# Altium integrated library TI Logic Boundary Scan.IntLib: 169 symbols (part 3 of 5)
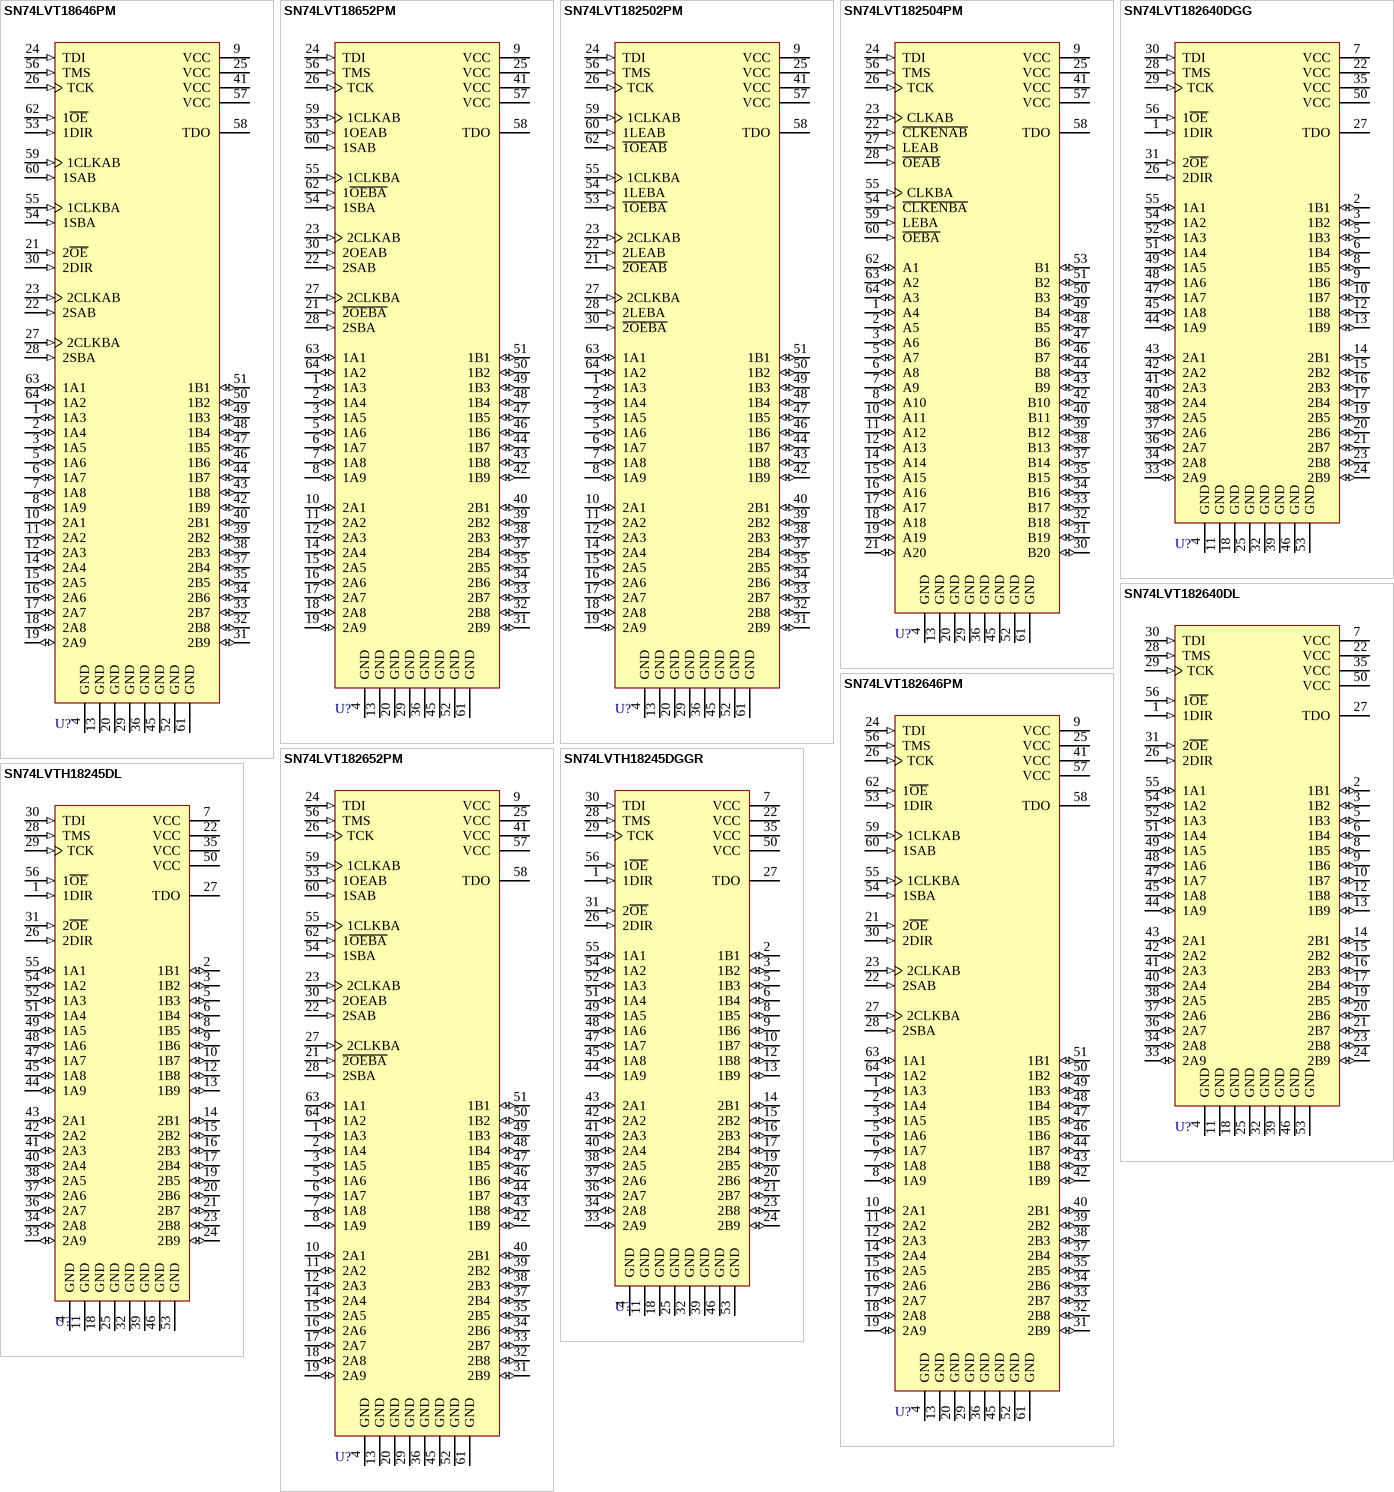
[diagram p14: symbols SN74LVT18646PM to SN74LVTH18245DL]

## SN74LVT182640DGG
designator U?
3.3-V ABT Scan Test Device with 18-Bit Inverting Bus Transceiver; Published: 8-Jun-2000; LatestRevisionDate: 06-Jun-2005; LatestRevisionNote: Stylized 3D Model Added.; DatasheetVersion: Aug-1994; PackageVersion: Jan-1998; PackageReference: DGG056; Publisher: Altium Limited; PackageDescription: Shrink Small Outline; 56 Leads; Body Width 6.1 mm; Pitch 0.5 mm; ComponentLink1Description: Manufacturer Link; ComponentLink1URL: http://www.ti.com/
footprint DGG056 (Shrink Small Outline; 56 Leads; Body Width 6.1 mm; Pitch 0.5 mm)
3D model DGG056 (Shrink Small Outline; 56 Leads; Body Width 6.1 mm; Pitch 0.5 mm)
signal-integrity model SN74LVT182640DGG
pins: 1 1DIR (in), 2 1B1 (io), 3 1B2 (io), 4 GND (power), 5 1B3 (io), 6 1B4 (io), 7 VCC (power), 8 1B5 (io), 9 1B6 (io), 10 1B7 (io), 11 GND (power), 12 1B8 (io), 13 1B9 (io), 14 2B1 (io), 15 2B2 (io), 16 2B3 (io), 17 2B4 (io), 18 GND (power), 19 2B5 (io), 20 2B6 (io), 21 2B7 (io), 22 VCC (power), 23 2B8 (io), 24 2B9 (io), 25 GND (power), 26 2DIR (in), 27 TDO (hiz), 28 TMS (in), 29 TCK (in), 30 TDI (in), 31 2~{OE} (in), 32 GND (power), 33 2A9 (io), 34 2A8 (io), 35 VCC (power), 36 2A7 (io), 37 2A6 (io), 38 2A5 (io), 39 GND (power), 40 2A4 (io), 41 2A3 (io), 42 2A2 (io), 43 2A1 (io), 44 1A9 (io), 45 1A8 (io), 46 GND (power), 47 1A7 (io), 48 1A6 (io), 49 1A5 (io), 50 VCC (power), 51 1A4 (io), 52 1A3 (io), 53 GND (power), 54 1A2 (io), 55 1A1 (io), 56 1~{OE} (in)

## SN74LVT182640DL
designator U?
3.3-V ABT Scan Test Device with 18-Bit Inverting Bus Transceiver; Published: 8-Jun-2000; LatestRevisionDate: 06-Jun-2005; LatestRevisionNote: Stylized 3D Model Added.; DatasheetVersion: Aug-1994; PackageVersion: Dec-2001; PackageReference: DL056; Publisher: Altium Limited; PackageDescription: SSOP; 56 Leads; Body Width 7.5 mm; Pitch 0.635 mm; Code_JEDEC: MO-118-AB; Code_IPC: SSO56; ComponentLink1Description: Manufacturer Link; ComponentLink1URL: http://www.ti.com/
footprint DL056 (SSOP; 56 Leads; Body Width 7.5 mm; Pitch 0.635 mm)
3D model DL056 (SSOP; 56 Leads; Body Width 7.5 mm; Pitch 0.635 mm)
signal-integrity model SN74LVT182640DL
pins: 1 1DIR (in), 2 1B1 (io), 3 1B2 (io), 4 GND (power), 5 1B3 (io), 6 1B4 (io), 7 VCC (power), 8 1B5 (io), 9 1B6 (io), 10 1B7 (io), 11 GND (power), 12 1B8 (io), 13 1B9 (io), 14 2B1 (io), 15 2B2 (io), 16 2B3 (io), 17 2B4 (io), 18 GND (power), 19 2B5 (io), 20 2B6 (io), 21 2B7 (io), 22 VCC (power), 23 2B8 (io), 24 2B9 (io), 25 GND (power), 26 2DIR (in), 27 TDO (hiz), 28 TMS (in), 29 TCK (in), 30 TDI (in), 31 2~{OE} (in), 32 GND (power), 33 2A9 (io), 34 2A8 (io), 35 VCC (power), 36 2A7 (io), 37 2A6 (io), 38 2A5 (io), 39 GND (power), 40 2A4 (io), 41 2A3 (io), 42 2A2 (io), 43 2A1 (io), 44 1A9 (io), 45 1A8 (io), 46 GND (power), 47 1A7 (io), 48 1A6 (io), 49 1A5 (io), 50 VCC (power), 51 1A4 (io), 52 1A3 (io), 53 GND (power), 54 1A2 (io), 55 1A1 (io), 56 1~{OE} (in)

## SN74LVT182646PM
designator U?
3.3-V ABT Scan Test Device with 18-Bit Transceiver and Register; Published: 8-Jun-2000; LatestRevisionDate: 13-Apr-2006; LatestRevisionNote: IPC-7351 Footprint Added.; DatasheetVersion: Jul-1994; PackageVersion: Dec-1996; PackageReference: PM064; Publisher: Altium Limited; PackageDescription: 64-Pin Thin Quad Flat Pack 0.5 mm Pitch; ComponentLink1Description: Manufacturer Link; ComponentLink1URL: http://www.ti.com/
footprint PM064_N (Thin QFP, 64-Leads, Body 10x10mm, Pitch 0.5mm, IPC Medium Density)
footprint PM064_L (Thin QFP, 64-Leads, Body 10x10mm, Pitch 0.5mm, IPC High Density)
footprint PM064_M (Thin QFP, 64-Leads, Body 10x10mm, Pitch 0.5mm, IPC Low Density)
3D model SN74LVT182646-PM064 (64-Pin Thin Quad Flat Pack 0.5 mm Pitch)
signal-integrity model SN74LVT182646PM
pins: 1 1A3 (io), 2 1A4 (io), 3 1A5 (io), 4 GND (power), 5 1A6 (io), 6 1A7 (io), 7 1A8 (io), 8 1A9 (io), 9 VCC (power), 10 2A1 (io), 11 2A2 (io), 12 2A3 (io), 13 GND (power), 14 2A4 (io), 15 2A5 (io), 16 2A6 (io), 17 2A7 (io), 18 2A8 (io), 19 2A9 (io), 20 GND (power), 21 2~{OE} (in), 22 2SAB (in), 23 2CLKAB (in), 24 TDI (in), 25 VCC (power), 26 TCK (in), 27 2CLKBA (in), 28 2SBA (in), 29 GND (power), 30 2DIR (in), 31 2B9 (io), 32 2B8 (io), 33 2B7 (io), 34 2B6 (io), 35 2B5 (io), 36 GND (power), 37 2B4 (io), 38 2B3 (io), 39 2B2 (io), 40 2B1 (io), 41 VCC (power), 42 1B9 (io), 43 1B8 (io), 44 1B7 (io), 45 GND (power), 46 1B6 (io), 47 1B5 (io), 48 1B4 (io), 49 1B3 (io), 50 1B2 (io), 51 1B1 (io), 52 GND (power), 53 1DIR (in), 54 1SBA (in), 55 1CLKBA (in), 56 TMS (in), 57 VCC (power), 58 TDO (hiz), 59 1CLKAB (in), 60 1SAB (in), 61 GND (power), 62 1~{OE} (in), 63 1A1 (io), 64 1A2 (io)

## SN74LVT182652PM
designator U?
3.3-V ABT Scan Test Device with 18-Bit Transceivers and Registers; Published: 8-Jun-2000; LatestRevisionDate: 13-Apr-2006; LatestRevisionNote: IPC-7351 Footprint Added.; DatasheetVersion: Jul-1994; PackageVersion: Dec-1996; PackageReference: PM064; Publisher: Altium Limited; PackageDescription: 64-Pin Thin Quad Flat Pack 0.5 mm Pitch; ComponentLink1Description: Manufacturer Link; ComponentLink1URL: http://www.ti.com/
footprint PM064_N (Thin QFP, 64-Leads, Body 10x10mm, Pitch 0.5mm, IPC Medium Density)
footprint PM064_L (Thin QFP, 64-Leads, Body 10x10mm, Pitch 0.5mm, IPC High Density)
footprint PM064_M (Thin QFP, 64-Leads, Body 10x10mm, Pitch 0.5mm, IPC Low Density)
3D model SN74LVT182652-PM064 (64-Pin Thin Quad Flat Pack 0.5 mm Pitch)
signal-integrity model SN74LVT182652PM
pins: 1 1A3 (io), 2 1A4 (io), 3 1A5 (io), 4 GND (power), 5 1A6 (io), 6 1A7 (io), 7 1A8 (io), 8 1A9 (io), 9 VCC (power), 10 2A1 (io), 11 2A2 (io), 12 2A3 (io), 13 GND (power), 14 2A4 (io), 15 2A5 (io), 16 2A6 (io), 17 2A7 (io), 18 2A8 (io), 19 2A9 (io), 20 GND (power), 21 ~{2OEBA} (in), 22 2SAB (in), 23 2CLKAB (in), 24 TDI (in), 25 VCC (power), 26 TCK (in), 27 2CLKBA (in), 28 2SBA (in), 29 GND (power), 30 2OEAB (in), 31 2B9 (io), 32 2B8 (io), 33 2B7 (io), 34 2B6 (io), 35 2B5 (io), 36 GND (power), 37 2B4 (io), 38 2B3 (io), 39 2B2 (io), 40 2B1 (io), 41 VCC (power), 42 1B9 (io), 43 1B8 (io), 44 1B7 (io), 45 GND (power), 46 1B6 (io), 47 1B5 (io), 48 1B4 (io), 49 1B3 (io), 50 1B2 (io), 51 1B1 (io), 52 GND (power), 53 1OEAB (in), 54 1SBA (in), 55 1CLKBA (in), 56 TMS (in), 57 VCC (power), 58 TDO (hiz), 59 1CLKAB (in), 60 1SAB (in), 61 GND (power), 62 1~{OEBA} (in), 63 1A1 (io), 64 1A2 (io)

## SN74LVTH18245DGGR
designator U?
3.3-V ABT Scan Test Device with 18-Bit Bus Transceiver; Published: 8-Jun-2000; LatestRevisionDate: 06-Jun-2005; LatestRevisionNote: Stylized 3D Model Added.; DatasheetVersion: Jul-1996; PackageVersion: Jan-1998; PackageReference: DGG056; Publisher: Altium Limited; PackageDescription: Shrink Small Outline; 56 Leads; Body Width 6.1 mm; Pitch 0.5 mm; ComponentLink1Description: Manufacturer Link; ComponentLink1URL: http://www.ti.com/
footprint DGG056 (Shrink Small Outline; 56 Leads; Body Width 6.1 mm; Pitch 0.5 mm)
3D model DGG056 (Shrink Small Outline; 56 Leads; Body Width 6.1 mm; Pitch 0.5 mm)
pins: 1 1DIR (in), 2 1B1 (io), 3 1B2 (io), 4 GND (power), 5 1B3 (io), 6 1B4 (io), 7 VCC (power), 8 1B5 (io), 9 1B6 (io), 10 1B7 (io), 11 GND (power), 12 1B8 (io), 13 1B9 (io), 14 2B1 (io), 15 2B2 (io), 16 2B3 (io), 17 2B4 (io), 18 GND (power), 19 2B5 (io), 20 2B6 (io), 21 2B7 (io), 22 VCC (power), 23 2B8 (io), 24 2B9 (io), 25 GND (power), 26 2DIR (in), 27 TDO (hiz), 28 TMS (in), 29 TCK (in), 30 TDI (in), 31 2~{OE} (in), 32 GND (power), 33 2A9 (io), 34 2A8 (io), 35 VCC (power), 36 2A7 (io), 37 2A6 (io), 38 2A5 (io), 39 GND (power), 40 2A4 (io), 41 2A3 (io), 42 2A2 (io), 43 2A1 (io), 44 1A9 (io), 45 1A8 (io), 46 GND (power), 47 1A7 (io), 48 1A6 (io), 49 1A5 (io), 50 VCC (power), 51 1A4 (io), 52 1A3 (io), 53 GND (power), 54 1A2 (io), 55 1A1 (io), 56 1~{OE} (in)

## SN74LVTH18245DL
designator U?
3.3-V ABT Scan Test Device with 18-Bit Bus Transceiver; Published: 8-Jun-2000; LatestRevisionDate: 06-Jun-2005; LatestRevisionNote: Stylized 3D Model Added.; DatasheetVersion: Jul-1996; PackageVersion: Dec-2001; PackageReference: DL056; Publisher: Altium Limited; PackageDescription: SSOP; 56 Leads; Body Width 7.5 mm; Pitch 0.635 mm; Code_JEDEC: MO-118-AB; Code_IPC: SSO56; ComponentLink1Description: Manufacturer Link; ComponentLink1URL: http://www.ti.com/
footprint DL056 (SSOP; 56 Leads; Body Width 7.5 mm; Pitch 0.635 mm)
3D model DL056 (SSOP; 56 Leads; Body Width 7.5 mm; Pitch 0.635 mm)
pins: 1 1DIR (in), 2 1B1 (io), 3 1B2 (io), 4 GND (power), 5 1B3 (io), 6 1B4 (io), 7 VCC (power), 8 1B5 (io), 9 1B6 (io), 10 1B7 (io), 11 GND (power), 12 1B8 (io), 13 1B9 (io), 14 2B1 (io), 15 2B2 (io), 16 2B3 (io), 17 2B4 (io), 18 GND (power), 19 2B5 (io), 20 2B6 (io), 21 2B7 (io), 22 VCC (power), 23 2B8 (io), 24 2B9 (io), 25 GND (power), 26 2DIR (in), 27 TDO (hiz), 28 TMS (in), 29 TCK (in), 30 TDI (in), 31 2~{OE} (in), 32 GND (power), 33 2A9 (io), 34 2A8 (io), 35 VCC (power), 36 2A7 (io), 37 2A6 (io), 38 2A5 (io), 39 GND (power), 40 2A4 (io), 41 2A3 (io), 42 2A2 (io), 43 2A1 (io), 44 1A9 (io), 45 1A8 (io), 46 GND (power), 47 1A7 (io), 48 1A6 (io), 49 1A5 (io), 50 VCC (power), 51 1A4 (io), 52 1A3 (io), 53 GND (power), 54 1A2 (io), 55 1A1 (io), 56 1~{OE} (in)

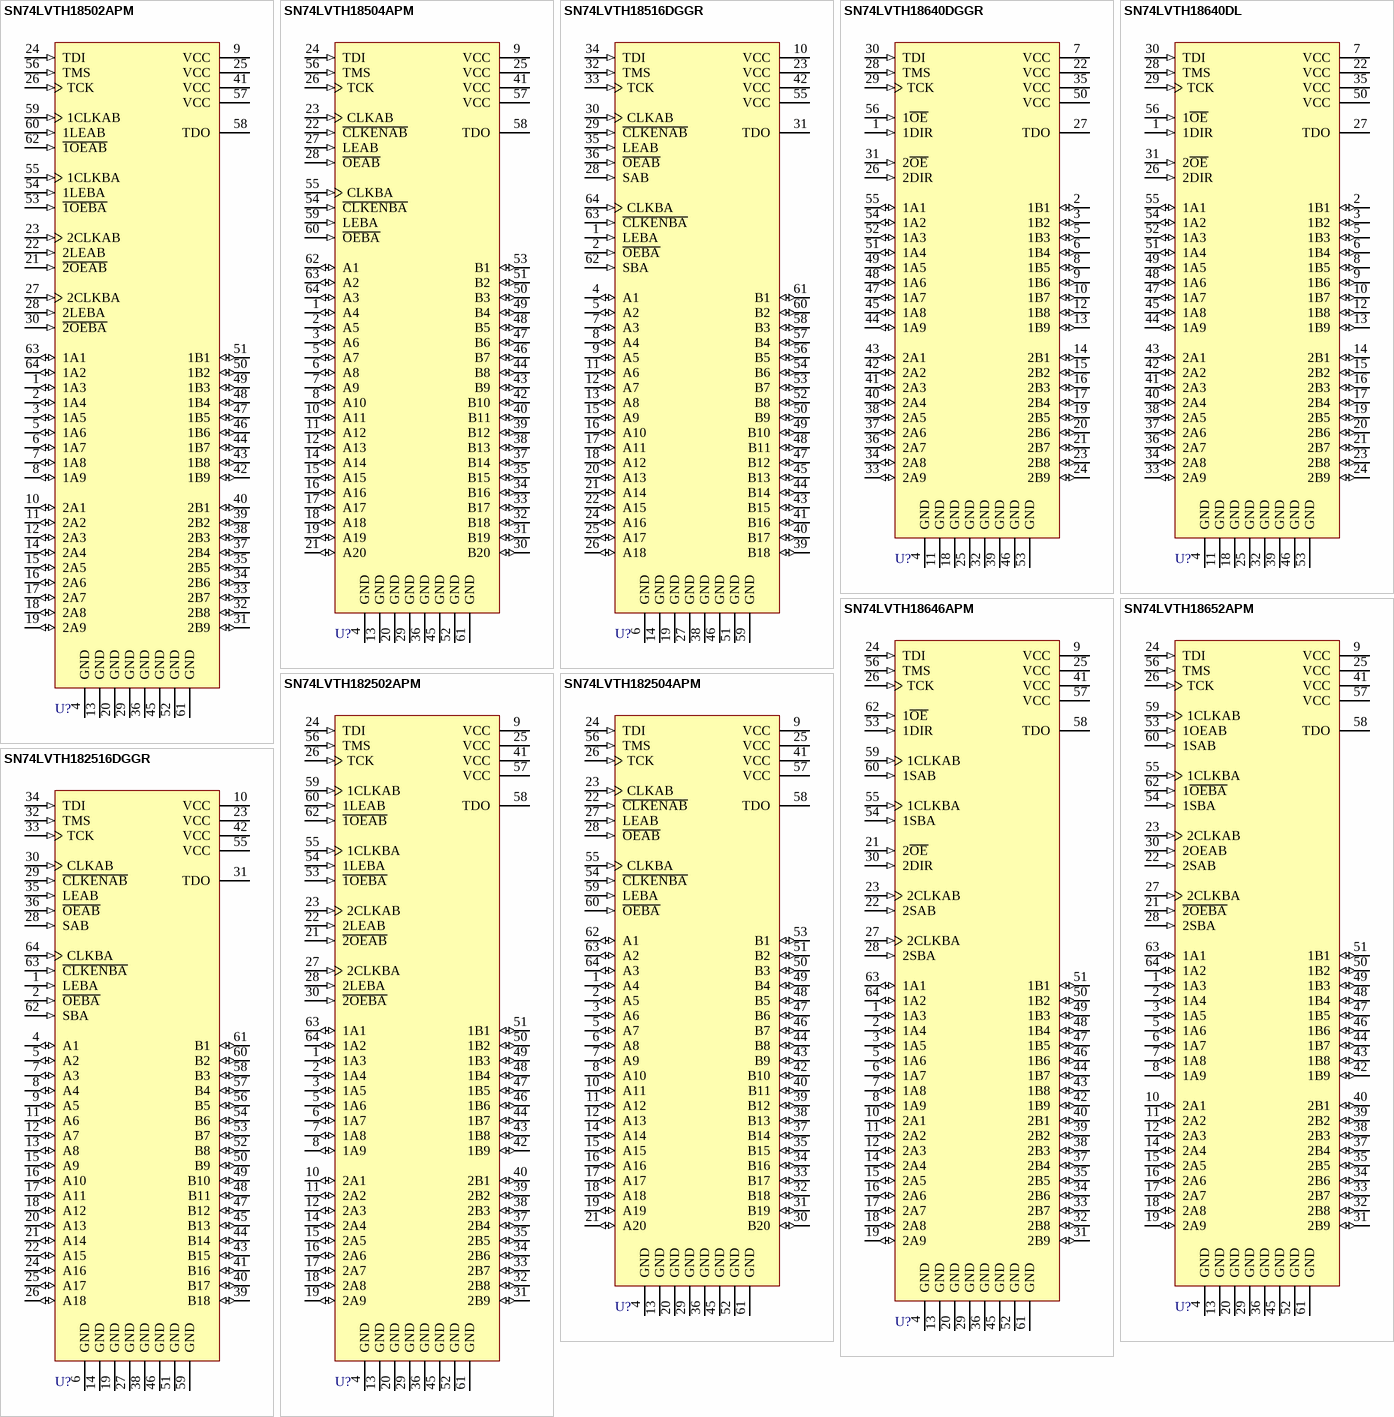
[diagram p5: symbols SN74LVTH18502APM to SN74LVTH182516DGGR]

## SN74LVTH18502APM
designator U?
3.3V ABT Scan Test Device with 18-Bit Universal Bus Transceiver; Published: 8-Jun-2000; LatestRevisionDate: 13-Apr-2006; LatestRevisionNote: IPC-7351 Footprint Added.; DatasheetVersion: Mar-1999; PackageVersion: Dec-1996; PackageReference: PM064; Publisher: Altium Limited; PackageDescription: 64-Pin Thin Quad Flat Pack 0.5 mm Pitch; ComponentLink1Description: Manufacturer Link; ComponentLink1URL: http://www.ti.com/; ComponentLink2Description: Datasheet; ComponentLink2URL: http://www-s.ti.com/sc/ds/sn74lvth18502a.pdf
footprint PM064_N (Thin QFP, 64-Leads, Body 10x10mm, Pitch 0.5mm, IPC Medium Density)
footprint PM064_L (Thin QFP, 64-Leads, Body 10x10mm, Pitch 0.5mm, IPC High Density)
footprint PM064_M (Thin QFP, 64-Leads, Body 10x10mm, Pitch 0.5mm, IPC Low Density)
3D model SN74LVTH18502A-PM064 (64-Pin Thin Quad Flat Pack 0.5 mm Pitch)
pins: 1 1A3 (io), 2 1A4 (io), 3 1A5 (io), 4 GND (power), 5 1A6 (io), 6 1A7 (io), 7 1A8 (io), 8 1A9 (io), 9 VCC (power), 10 2A1 (io), 11 2A2 (io), 12 2A3 (io), 13 GND (power), 14 2A4 (io), 15 2A5 (io), 16 2A6 (io), 17 2A7 (io), 18 2A8 (io), 19 2A9 (io), 20 GND (power), 21 ~{2OEAB} (in), 22 2LEAB (in), 23 2CLKAB (in), 24 TDI (in), 25 VCC (power), 26 TCK (in), 27 2CLKBA (in), 28 2LEBA (in), 29 GND (power), 30 ~{2OEBA} (in), 31 2B9 (io), 32 2B8 (io), 33 2B7 (io), 34 2B6 (io), 35 2B5 (io), 36 GND (power), 37 2B4 (io), 38 2B3 (io), 39 2B2 (io), 40 2B1 (io), 41 VCC (power), 42 1B9 (io), 43 1B8 (io), 44 1B7 (io), 45 GND (power), 46 1B6 (io), 47 1B5 (io), 48 1B4 (io), 49 1B3 (io), 50 1B2 (io), 51 1B1 (io), 52 GND (power), 53 ~{1OEBA} (in), 54 1LEBA (in), 55 1CLKBA (in), 56 TMS (in), 57 VCC (power), 58 TDO (hiz), 59 1CLKAB (in), 60 1LEAB (in), 61 GND (power), 62 ~{1OEAB} (in), 63 1A1 (io), 64 1A2 (io)

## SN74LVTH18504APM
designator U?
3.3V ABT Scan Test Device with 20-Bit Universal Bus Transceiver; Published: 8-Jun-2000; LatestRevisionDate: 13-Apr-2006; LatestRevisionNote: IPC-7351 Footprint Added.; DatasheetVersion: Jun-1997; PackageVersion: Dec-1996; PackageReference: PM064; Publisher: Altium Limited; PackageDescription: 64-Pin Thin Quad Flat Pack 0.5 mm Pitch; ComponentLink1Description: Manufacturer Link; ComponentLink1URL: http://www.ti.com/; ComponentLink2Description: Datasheet; ComponentLink2URL: http://www-s.ti.com/sc/ds/sn74lvth18504a.pdf
footprint PM064_N (Thin QFP, 64-Leads, Body 10x10mm, Pitch 0.5mm, IPC Medium Density)
footprint PM064_L (Thin QFP, 64-Leads, Body 10x10mm, Pitch 0.5mm, IPC High Density)
footprint PM064_M (Thin QFP, 64-Leads, Body 10x10mm, Pitch 0.5mm, IPC Low Density)
3D model SN74LVTH18504A-PM064 (64-Pin Thin Quad Flat Pack 0.5 mm Pitch)
pins: 1 A4 (io), 2 A5 (io), 3 A6 (io), 4 GND (power), 5 A7 (io), 6 A8 (io), 7 A9 (io), 8 A10 (io), 9 VCC (power), 10 A11 (io), 11 A12 (io), 12 A13 (io), 13 GND (power), 14 A14 (io), 15 A15 (io), 16 A16 (io), 17 A17 (io), 18 A18 (io), 19 A19 (io), 20 GND (power), 21 A20 (io), 22 ~{CLKENAB} (in), 23 CLKAB (in), 24 TDI (in), 25 VCC (power), 26 TCK (in), 27 LEAB (in), 28 ~{OEAB} (in), 29 GND (power), 30 B20 (io), 31 B19 (io), 32 B18 (io), 33 B17 (io), 34 B16 (io), 35 B15 (io), 36 GND (power), 37 B14 (io), 38 B13 (io), 39 B12 (io), 40 B11 (io), 41 VCC (power), 42 B10 (io), 43 B9 (io), 44 B8 (io), 45 GND (power), 46 B7 (io), 47 B6 (io), 48 B5 (io), 49 B4 (io), 50 B3 (io), 51 B2 (io), 52 GND (power), 53 B1 (io), 54 ~{CLKENBA} (in), 55 CLKBA (in), 56 TMS (in), 57 VCC (power), 58 TDO (hiz), 59 LEBA (in), 60 ~{OEBA} (in), 61 GND (power), 62 A1 (io), 63 A2 (io), 64 A3 (io)

## SN74LVTH18516DGGR
designator U?
3.3-V ABT Scan Test Device with 18-Bit Universal Bus Transceivers; Note: Pins 3 and 37 - No Connection and not drawn; Published: 8-Jun-2000; LatestRevisionDate: 06-Jun-2005; LatestRevisionNote: Stylized 3D Model Added.; DatasheetVersion: Jun-1997; PackageVersion: Jan-1998; PackageReference: DGG064; Publisher: Altium Limited; PackageDescription: Shrink Small Outline; 64 Leads; Body Width 6.1 mm; Pitch 0.5 mm; ComponentLink1Description: Manufacturer Link; ComponentLink1URL: http://www.ti.com/
footprint DGG064 (Shrink Small Outline; 64 Leads; Body Width 6.1 mm; Pitch 0.5 mm)
3D model DGG064 (Shrink Small Outline; 64 Leads; Body Width 6.1 mm; Pitch 0.5 mm)
pins: 1 LEBA (in), 2 ~{OEBA} (in), 4 A1 (io), 5 A2 (io), 6 GND (power), 7 A3 (io), 8 A4 (io), 9 A5 (io), 10 VCC (power), 11 A6 (io), 12 A7 (io), 13 A8 (io), 14 GND (power), 15 A9 (io), 16 A10 (io), 17 A11 (io), 18 A12 (io), 19 GND (power), 20 A13 (io), 21 A14 (io), 22 A15 (io), 23 VCC (power), 24 A16 (io), 25 A17 (io), 26 A18 (io), 27 GND (power), 28 SAB (in), 29 ~{CLKENAB} (in), 30 CLKAB (in), 31 TDO (hiz), 32 TMS (in), 33 TCK (in), 34 TDI (in), 35 LEAB (in), 36 ~{OEAB} (in), 38 GND (power), 39 B18 (io), 40 B17 (io), 41 B16 (io), 42 VCC (power), 43 B15 (io), 44 B14 (io), 45 B13 (io), 46 GND (power), 47 B12 (io), 48 B11 (io), 49 B10 (io), 50 B9 (io), 51 GND (power), 52 B8 (io), 53 B7 (io), 54 B6 (io), 55 VCC (power), 56 B5 (io), 57 B4 (io), 58 B3 (io), 59 GND (power), 60 B2 (io), 61 B1 (io), 62 SBA (in), 63 ~{CLKENBA} (in), 64 CLKBA (in)

## SN74LVTH18640DGGR
designator U?
3.3-V ABT Scan Test Device with 18-Bit Inverting Bus Transceiver; Published: 8-Jun-2000; LatestRevisionDate: 06-Jun-2005; LatestRevisionNote: Stylized 3D Model Added.; DatasheetVersion: Jul-1996; PackageVersion: Jan-1998; PackageReference: DGG056; Publisher: Altium Limited; PackageDescription: Shrink Small Outline; 56 Leads; Body Width 6.1 mm; Pitch 0.5 mm; ComponentLink1Description: Manufacturer Link; ComponentLink1URL: http://www.ti.com/
footprint DGG056 (Shrink Small Outline; 56 Leads; Body Width 6.1 mm; Pitch 0.5 mm)
3D model DGG056 (Shrink Small Outline; 56 Leads; Body Width 6.1 mm; Pitch 0.5 mm)
pins: 1 1DIR (in), 2 1B1 (io), 3 1B2 (io), 4 GND (power), 5 1B3 (io), 6 1B4 (io), 7 VCC (power), 8 1B5 (io), 9 1B6 (io), 10 1B7 (io), 11 GND (power), 12 1B8 (io), 13 1B9 (io), 14 2B1 (io), 15 2B2 (io), 16 2B3 (io), 17 2B4 (io), 18 GND (power), 19 2B5 (io), 20 2B6 (io), 21 2B7 (io), 22 VCC (power), 23 2B8 (io), 24 2B9 (io), 25 GND (power), 26 2DIR (in), 27 TDO (hiz), 28 TMS (in), 29 TCK (in), 30 TDI (in), 31 2~{OE} (in), 32 GND (power), 33 2A9 (io), 34 2A8 (io), 35 VCC (power), 36 2A7 (io), 37 2A6 (io), 38 2A5 (io), 39 GND (power), 40 2A4 (io), 41 2A3 (io), 42 2A2 (io), 43 2A1 (io), 44 1A9 (io), 45 1A8 (io), 46 GND (power), 47 1A7 (io), 48 1A6 (io), 49 1A5 (io), 50 VCC (power), 51 1A4 (io), 52 1A3 (io), 53 GND (power), 54 1A2 (io), 55 1A1 (io), 56 1~{OE} (in)

## SN74LVTH18640DL
designator U?
3.3-V ABT Scan Test Device with 18-Bit Inverting Bus Transceiver; Published: 8-Jun-2000; LatestRevisionDate: 06-Jun-2005; LatestRevisionNote: Stylized 3D Model Added.; DatasheetVersion: Jul-1996; PackageVersion: Dec-2001; PackageReference: DL056; Publisher: Altium Limited; PackageDescription: SSOP; 56 Leads; Body Width 7.5 mm; Pitch 0.635 mm; Code_JEDEC: MO-118-AB; Code_IPC: SSO56; ComponentLink1Description: Manufacturer Link; ComponentLink1URL: http://www.ti.com/
footprint DL056 (SSOP; 56 Leads; Body Width 7.5 mm; Pitch 0.635 mm)
3D model DL056 (SSOP; 56 Leads; Body Width 7.5 mm; Pitch 0.635 mm)
pins: 1 1DIR (in), 2 1B1 (io), 3 1B2 (io), 4 GND (power), 5 1B3 (io), 6 1B4 (io), 7 VCC (power), 8 1B5 (io), 9 1B6 (io), 10 1B7 (io), 11 GND (power), 12 1B8 (io), 13 1B9 (io), 14 2B1 (io), 15 2B2 (io), 16 2B3 (io), 17 2B4 (io), 18 GND (power), 19 2B5 (io), 20 2B6 (io), 21 2B7 (io), 22 VCC (power), 23 2B8 (io), 24 2B9 (io), 25 GND (power), 26 2DIR (in), 27 TDO (hiz), 28 TMS (in), 29 TCK (in), 30 TDI (in), 31 2~{OE} (in), 32 GND (power), 33 2A9 (io), 34 2A8 (io), 35 VCC (power), 36 2A7 (io), 37 2A6 (io), 38 2A5 (io), 39 GND (power), 40 2A4 (io), 41 2A3 (io), 42 2A2 (io), 43 2A1 (io), 44 1A9 (io), 45 1A8 (io), 46 GND (power), 47 1A7 (io), 48 1A6 (io), 49 1A5 (io), 50 VCC (power), 51 1A4 (io), 52 1A3 (io), 53 GND (power), 54 1A2 (io), 55 1A1 (io), 56 1~{OE} (in)

## SN74LVTH18646APM
designator U?
3.3V ABT Scan Test Device with 18-Bit Transceiver and Register; Published: 8-Jun-2000; LatestRevisionDate: 13-Apr-2006; LatestRevisionNote: IPC-7351 Footprint Added.; DatasheetVersion: Jun-1997; PackageVersion: Dec-1996; PackageReference: PM064; Publisher: Altium Limited; PackageDescription: 64-Pin Thin Quad Flat Pack 0.5 mm Pitch; ComponentLink1Description: Manufacturer Link; ComponentLink1URL: http://www.ti.com/; ComponentLink2Description: Datasheet; ComponentLink2URL: http://www-s.ti.com/sc/ds/sn74lvth18646a.pdf
footprint PM064_N (Thin QFP, 64-Leads, Body 10x10mm, Pitch 0.5mm, IPC Medium Density)
footprint PM064_L (Thin QFP, 64-Leads, Body 10x10mm, Pitch 0.5mm, IPC High Density)
footprint PM064_M (Thin QFP, 64-Leads, Body 10x10mm, Pitch 0.5mm, IPC Low Density)
3D model SN74LVTH18646A-PM064 (64-Pin Thin Quad Flat Pack 0.5 mm Pitch)
pins: 1 1A3 (io), 2 1A4 (io), 3 1A5 (io), 4 GND (power), 5 1A6 (io), 6 1A7 (io), 7 1A8 (io), 8 1A9 (io), 9 VCC (power), 10 2A1 (io), 11 2A2 (io), 12 2A3 (io), 13 GND (power), 14 2A4 (io), 15 2A5 (io), 16 2A6 (io), 17 2A7 (io), 18 2A8 (io), 19 2A9 (io), 20 GND (power), 21 2~{OE} (in), 22 2SAB (in), 23 2CLKAB (in), 24 TDI (in), 25 VCC (power), 26 TCK (in), 27 2CLKBA (in), 28 2SBA (in), 29 GND (power), 30 2DIR (in), 31 2B9 (io), 32 2B8 (io), 33 2B7 (io), 34 2B6 (io), 35 2B5 (io), 36 GND (power), 37 2B4 (io), 38 2B3 (io), 39 2B2 (io), 40 2B1 (io), 41 VCC (power), 42 1B9 (io), 43 1B8 (io), 44 1B7 (io), 45 GND (power), 46 1B6 (io), 47 1B5 (io), 48 1B4 (io), 49 1B3 (io), 50 1B2 (io), 51 1B1 (io), 52 GND (power), 53 1DIR (in), 54 1SBA (in), 55 1CLKBA (in), 56 TMS (in), 57 VCC (power), 58 TDO (hiz), 59 1CLKAB (in), 60 1SAB (in), 61 GND (power), 62 1~{OE} (in), 63 1A1 (io), 64 1A2 (io)

## SN74LVTH18652APM
designator U?
3.3V ABT Scan Test Device with 18-Bit Transceiver and Register; Published: 8-Jun-2000; LatestRevisionDate: 13-Apr-2006; LatestRevisionNote: IPC-7351 Footprint Added.; DatasheetVersion: Jun-1997; PackageVersion: Dec-1996; PackageReference: PM064; Publisher: Altium Limited; PackageDescription: 64-Pin Thin Quad Flat Pack 0.5 mm Pitch; ComponentLink1Description: Manufacturer Link; ComponentLink1URL: http://www.ti.com/; ComponentLink2Description: Datasheet; ComponentLink2URL: http://www-s.ti.com/sc/ds/sn74lvth18652a.pdf
footprint PM064_N (Thin QFP, 64-Leads, Body 10x10mm, Pitch 0.5mm, IPC Medium Density)
footprint PM064_L (Thin QFP, 64-Leads, Body 10x10mm, Pitch 0.5mm, IPC High Density)
footprint PM064_M (Thin QFP, 64-Leads, Body 10x10mm, Pitch 0.5mm, IPC Low Density)
3D model SN74LVTH18652A-PM064 (64-Pin Thin Quad Flat Pack 0.5 mm Pitch)
pins: 1 1A3 (io), 2 1A4 (io), 3 1A5 (io), 4 GND (power), 5 1A6 (io), 6 1A7 (io), 7 1A8 (io), 8 1A9 (io), 9 VCC (power), 10 2A1 (io), 11 2A2 (io), 12 2A3 (io), 13 GND (power), 14 2A4 (io), 15 2A5 (io), 16 2A6 (io), 17 2A7 (io), 18 2A8 (io), 19 2A9 (io), 20 GND (power), 21 ~{2OEBA} (in), 22 2SAB (in), 23 2CLKAB (in), 24 TDI (in), 25 VCC (power), 26 TCK (in), 27 2CLKBA (in), 28 2SBA (in), 29 GND (power), 30 2OEAB (in), 31 2B9 (io), 32 2B8 (io), 33 2B7 (io), 34 2B6 (io), 35 2B5 (io), 36 GND (power), 37 2B4 (io), 38 2B3 (io), 39 2B2 (io), 40 2B1 (io), 41 VCC (power), 42 1B9 (io), 43 1B8 (io), 44 1B7 (io), 45 GND (power), 46 1B6 (io), 47 1B5 (io), 48 1B4 (io), 49 1B3 (io), 50 1B2 (io), 51 1B1 (io), 52 GND (power), 53 1OEAB (in), 54 1SBA (in), 55 1CLKBA (in), 56 TMS (in), 57 VCC (power), 58 TDO (hiz), 59 1CLKAB (in), 60 1SAB (in), 61 GND (power), 62 1~{OEBA} (in), 63 1A1 (io), 64 1A2 (io)

## SN74LVTH182502APM
designator U?
3.3V ABT Scan Test Device with 18-Bit Universal Bus Transceiver; Published: 8-Jun-2000; LatestRevisionDate: 13-Apr-2006; LatestRevisionNote: IPC-7351 Footprint Added.; DatasheetVersion: Mar-1999; PackageVersion: Dec-1996; PackageReference: PM064; Publisher: Altium Limited; PackageDescription: 64-Pin Thin Quad Flat Pack 0.5 mm Pitch; ComponentLink1Description: Manufacturer Link; ComponentLink1URL: http://www.ti.com/; ComponentLink2Description: Datasheet; ComponentLink2URL: http://www-s.ti.com/sc/ds/sn74lvth18502a.pdf
footprint PM064_N (Thin QFP, 64-Leads, Body 10x10mm, Pitch 0.5mm, IPC Medium Density)
footprint PM064_L (Thin QFP, 64-Leads, Body 10x10mm, Pitch 0.5mm, IPC High Density)
footprint PM064_M (Thin QFP, 64-Leads, Body 10x10mm, Pitch 0.5mm, IPC Low Density)
3D model SN74LVTH182502A-PM064 (64-Pin Thin Quad Flat Pack 0.5 mm Pitch)
pins: 1 1A3 (io), 2 1A4 (io), 3 1A5 (io), 4 GND (power), 5 1A6 (io), 6 1A7 (io), 7 1A8 (io), 8 1A9 (io), 9 VCC (power), 10 2A1 (io), 11 2A2 (io), 12 2A3 (io), 13 GND (power), 14 2A4 (io), 15 2A5 (io), 16 2A6 (io), 17 2A7 (io), 18 2A8 (io), 19 2A9 (io), 20 GND (power), 21 ~{2OEAB} (in), 22 2LEAB (in), 23 2CLKAB (in), 24 TDI (in), 25 VCC (power), 26 TCK (in), 27 2CLKBA (in), 28 2LEBA (in), 29 GND (power), 30 ~{2OEBA} (in), 31 2B9 (io), 32 2B8 (io), 33 2B7 (io), 34 2B6 (io), 35 2B5 (io), 36 GND (power), 37 2B4 (io), 38 2B3 (io), 39 2B2 (io), 40 2B1 (io), 41 VCC (power), 42 1B9 (io), 43 1B8 (io), 44 1B7 (io), 45 GND (power), 46 1B6 (io), 47 1B5 (io), 48 1B4 (io), 49 1B3 (io), 50 1B2 (io), 51 1B1 (io), 52 GND (power), 53 ~{1OEBA} (in), 54 1LEBA (in), 55 1CLKBA (in), 56 TMS (in), 57 VCC (power), 58 TDO (hiz), 59 1CLKAB (in), 60 1LEAB (in), 61 GND (power), 62 ~{1OEAB} (in), 63 1A1 (io), 64 1A2 (io)

## SN74LVTH182504APM
designator U?
3.3V ABT Scan Test Device with 20-Bit Universal Bus Transceiver; Published: 8-Jun-2000; LatestRevisionDate: 13-Apr-2006; LatestRevisionNote: IPC-7351 Footprint Added.; DatasheetVersion: Jun-1997; PackageVersion: Dec-1996; PackageReference: PM064; Publisher: Altium Limited; PackageDescription: 64-Pin Thin Quad Flat Pack 0.5 mm Pitch; ComponentLink1Description: Manufacturer Link; ComponentLink1URL: http://www.ti.com/; ComponentLink2Description: Datasheet; ComponentLink2URL: http://www-s.ti.com/sc/ds/sn74lvth18504a.pdf
footprint PM064_N (Thin QFP, 64-Leads, Body 10x10mm, Pitch 0.5mm, IPC Medium Density)
footprint PM064_L (Thin QFP, 64-Leads, Body 10x10mm, Pitch 0.5mm, IPC High Density)
footprint PM064_M (Thin QFP, 64-Leads, Body 10x10mm, Pitch 0.5mm, IPC Low Density)
3D model SN74LVTH182504A-PM064 (64-Pin Thin Quad Flat Pack 0.5 mm Pitch)
pins: 1 A4 (io), 2 A5 (io), 3 A6 (io), 4 GND (power), 5 A7 (io), 6 A8 (io), 7 A9 (io), 8 A10 (io), 9 VCC (power), 10 A11 (io), 11 A12 (io), 12 A13 (io), 13 GND (power), 14 A14 (io), 15 A15 (io), 16 A16 (io), 17 A17 (io), 18 A18 (io), 19 A19 (io), 20 GND (power), 21 A20 (io), 22 ~{CLKENAB} (in), 23 CLKAB (in), 24 TDI (in), 25 VCC (power), 26 TCK (in), 27 LEAB (in), 28 ~{OEAB} (in), 29 GND (power), 30 B20 (io), 31 B19 (io), 32 B18 (io), 33 B17 (io), 34 B16 (io), 35 B15 (io), 36 GND (power), 37 B14 (io), 38 B13 (io), 39 B12 (io), 40 B11 (io), 41 VCC (power), 42 B10 (io), 43 B9 (io), 44 B8 (io), 45 GND (power), 46 B7 (io), 47 B6 (io), 48 B5 (io), 49 B4 (io), 50 B3 (io), 51 B2 (io), 52 GND (power), 53 B1 (io), 54 ~{CLKENBA} (in), 55 CLKBA (in), 56 TMS (in), 57 VCC (power), 58 TDO (hiz), 59 LEBA (in), 60 ~{OEBA} (in), 61 GND (power), 62 A1 (io), 63 A2 (io), 64 A3 (io)

## SN74LVTH182516DGGR
designator U?
3.3-V ABT Scan Test Device with 18-Bit Universal Bus Transceiver; Note: Pins 3 and 37 - No Connection and not drawn; Published: 8-Jun-2000; LatestRevisionDate: 06-Jun-2005; LatestRevisionNote: Stylized 3D Model Added.; DatasheetVersion: Jun-1997; PackageVersion: Jan-1998; PackageReference: DGG064; Publisher: Altium Limited; PackageDescription: Shrink Small Outline; 64 Leads; Body Width 6.1 mm; Pitch 0.5 mm; ComponentLink1Description: Manufacturer Link; ComponentLink1URL: http://www.ti.com/
footprint DGG064 (Shrink Small Outline; 64 Leads; Body Width 6.1 mm; Pitch 0.5 mm)
3D model DGG064 (Shrink Small Outline; 64 Leads; Body Width 6.1 mm; Pitch 0.5 mm)
pins: 1 LEBA (in), 2 ~{OEBA} (in), 4 A1 (io), 5 A2 (io), 6 GND (power), 7 A3 (io), 8 A4 (io), 9 A5 (io), 10 VCC (power), 11 A6 (io), 12 A7 (io), 13 A8 (io), 14 GND (power), 15 A9 (io), 16 A10 (io), 17 A11 (io), 18 A12 (io), 19 GND (power), 20 A13 (io), 21 A14 (io), 22 A15 (io), 23 VCC (power), 24 A16 (io), 25 A17 (io), 26 A18 (io), 27 GND (power), 28 SAB (in), 29 ~{CLKENAB} (in), 30 CLKAB (in), 31 TDO (hiz), 32 TMS (in), 33 TCK (in), 34 TDI (in), 35 LEAB (in), 36 ~{OEAB} (in), 38 GND (power), 39 B18 (io), 40 B17 (io), 41 B16 (io), 42 VCC (power), 43 B15 (io), 44 B14 (io), 45 B13 (io), 46 GND (power), 47 B12 (io), 48 B11 (io), 49 B10 (io), 50 B9 (io), 51 GND (power), 52 B8 (io), 53 B7 (io), 54 B6 (io), 55 VCC (power), 56 B5 (io), 57 B4 (io), 58 B3 (io), 59 GND (power), 60 B2 (io), 61 B1 (io), 62 SBA (in), 63 ~{CLKENBA} (in), 64 CLKBA (in)

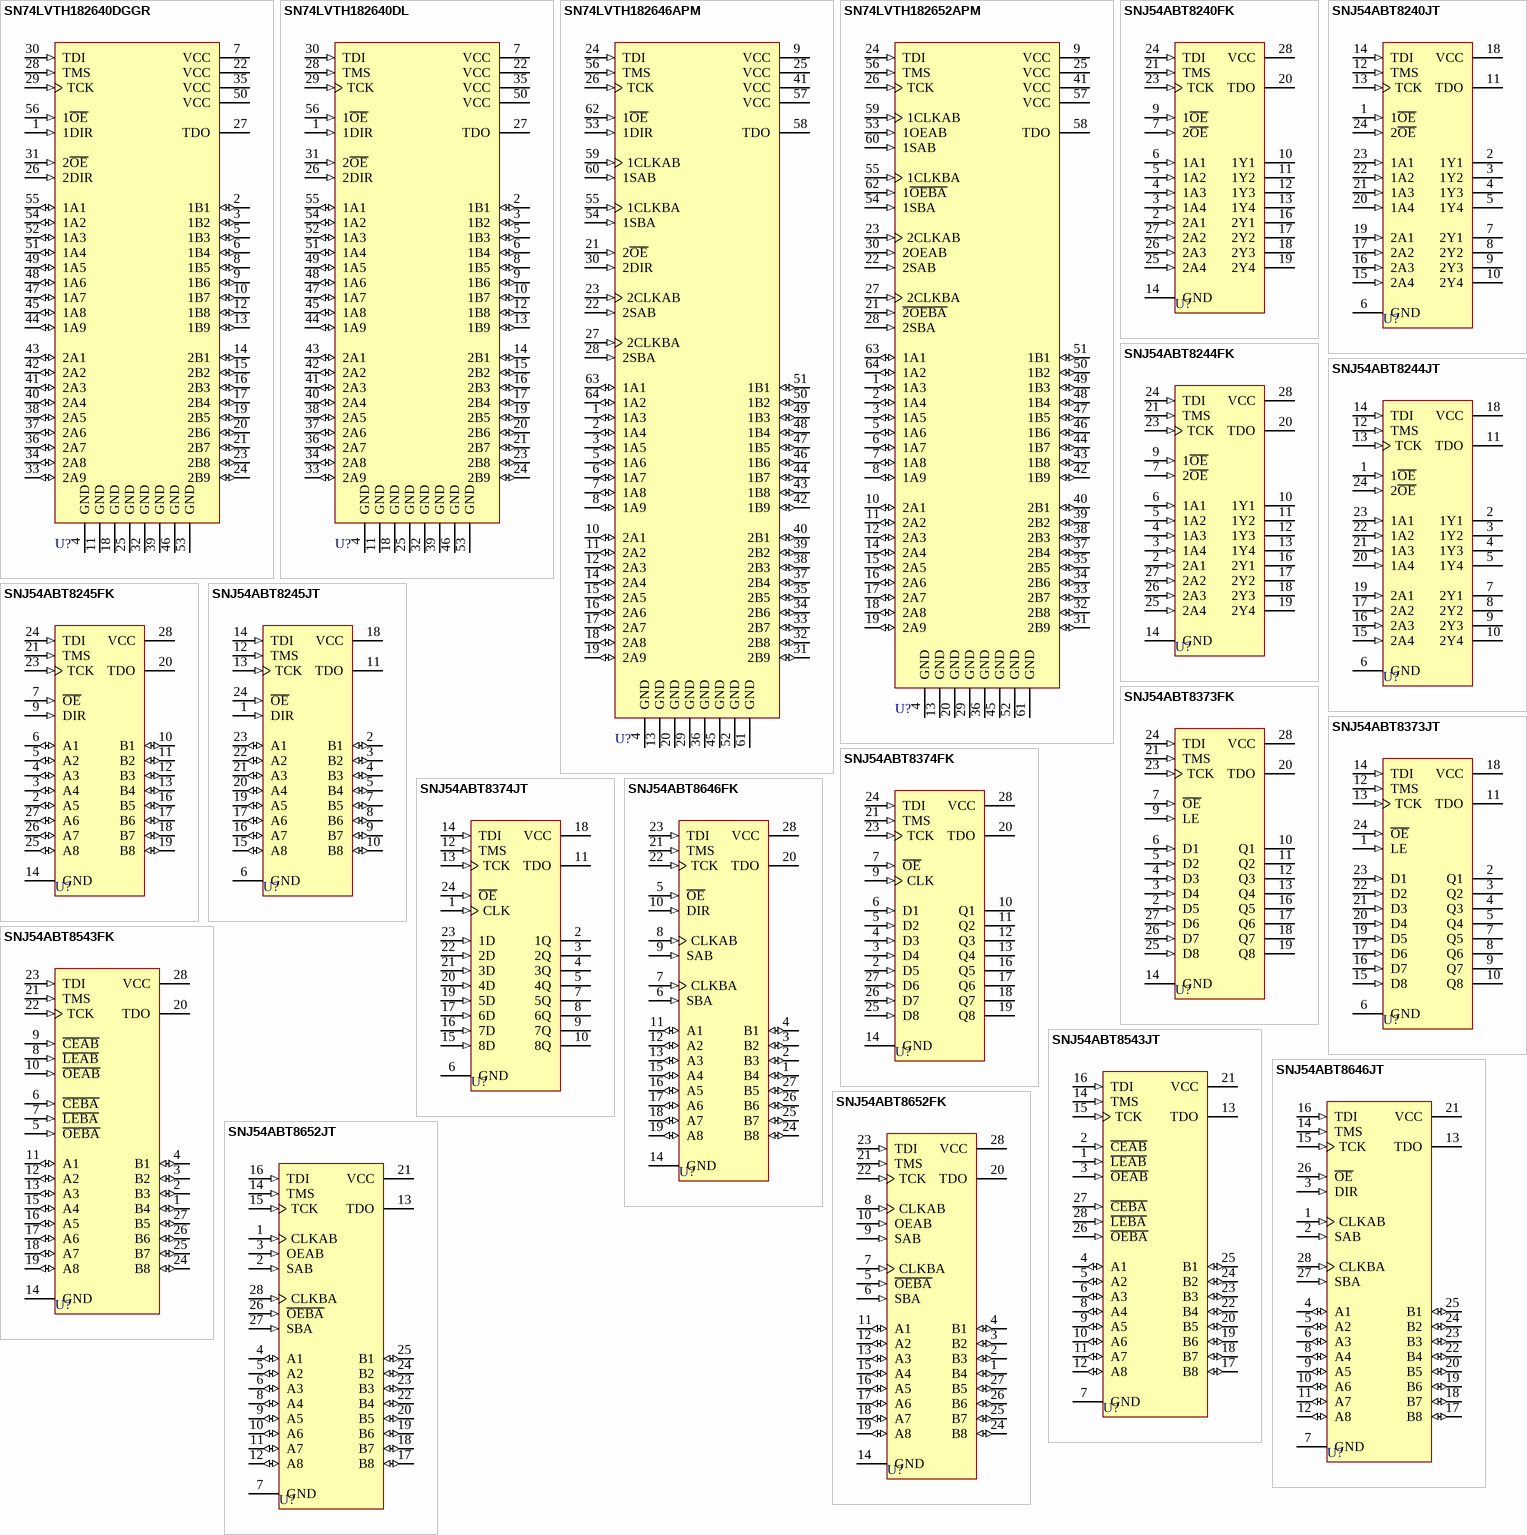
[diagram p6: symbols SN74LVTH182640DGGR to SNJ54ABT8652JT]

## SN74LVTH182640DGGR
designator U?
3.3-V ABT Scan Test Device with 18-Bit Inverting Bus Transceiver; Published: 8-Jun-2000; LatestRevisionDate: 06-Jun-2005; LatestRevisionNote: Stylized 3D Model Added.; DatasheetVersion: Jul-1996; PackageVersion: Jan-1998; PackageReference: DGG056; Publisher: Altium Limited; PackageDescription: Shrink Small Outline; 56 Leads; Body Width 6.1 mm; Pitch 0.5 mm; ComponentLink1Description: Manufacturer Link; ComponentLink1URL: http://www.ti.com/
footprint DGG056 (Shrink Small Outline; 56 Leads; Body Width 6.1 mm; Pitch 0.5 mm)
3D model DGG056 (Shrink Small Outline; 56 Leads; Body Width 6.1 mm; Pitch 0.5 mm)
pins: 1 1DIR (in), 2 1B1 (io), 3 1B2 (io), 4 GND (power), 5 1B3 (io), 6 1B4 (io), 7 VCC (power), 8 1B5 (io), 9 1B6 (io), 10 1B7 (io), 11 GND (power), 12 1B8 (io), 13 1B9 (io), 14 2B1 (io), 15 2B2 (io), 16 2B3 (io), 17 2B4 (io), 18 GND (power), 19 2B5 (io), 20 2B6 (io), 21 2B7 (io), 22 VCC (power), 23 2B8 (io), 24 2B9 (io), 25 GND (power), 26 2DIR (in), 27 TDO (hiz), 28 TMS (in), 29 TCK (in), 30 TDI (in), 31 2~{OE} (in), 32 GND (power), 33 2A9 (io), 34 2A8 (io), 35 VCC (power), 36 2A7 (io), 37 2A6 (io), 38 2A5 (io), 39 GND (power), 40 2A4 (io), 41 2A3 (io), 42 2A2 (io), 43 2A1 (io), 44 1A9 (io), 45 1A8 (io), 46 GND (power), 47 1A7 (io), 48 1A6 (io), 49 1A5 (io), 50 VCC (power), 51 1A4 (io), 52 1A3 (io), 53 GND (power), 54 1A2 (io), 55 1A1 (io), 56 1~{OE} (in)

## SN74LVTH182640DL
designator U?
3.3-V ABT Scan Test Device with 18-Bit Inverting Bus Transceiver; Published: 8-Jun-2000; LatestRevisionDate: 06-Jun-2005; LatestRevisionNote: Stylized 3D Model Added.; DatasheetVersion: Jul-1996; PackageVersion: Dec-2001; PackageReference: DL056; Publisher: Altium Limited; PackageDescription: SSOP; 56 Leads; Body Width 7.5 mm; Pitch 0.635 mm; Code_JEDEC: MO-118-AB; Code_IPC: SSO56; ComponentLink1Description: Manufacturer Link; ComponentLink1URL: http://www.ti.com/
footprint DL056 (SSOP; 56 Leads; Body Width 7.5 mm; Pitch 0.635 mm)
3D model DL056 (SSOP; 56 Leads; Body Width 7.5 mm; Pitch 0.635 mm)
pins: 1 1DIR (in), 2 1B1 (io), 3 1B2 (io), 4 GND (power), 5 1B3 (io), 6 1B4 (io), 7 VCC (power), 8 1B5 (io), 9 1B6 (io), 10 1B7 (io), 11 GND (power), 12 1B8 (io), 13 1B9 (io), 14 2B1 (io), 15 2B2 (io), 16 2B3 (io), 17 2B4 (io), 18 GND (power), 19 2B5 (io), 20 2B6 (io), 21 2B7 (io), 22 VCC (power), 23 2B8 (io), 24 2B9 (io), 25 GND (power), 26 2DIR (in), 27 TDO (hiz), 28 TMS (in), 29 TCK (in), 30 TDI (in), 31 2~{OE} (in), 32 GND (power), 33 2A9 (io), 34 2A8 (io), 35 VCC (power), 36 2A7 (io), 37 2A6 (io), 38 2A5 (io), 39 GND (power), 40 2A4 (io), 41 2A3 (io), 42 2A2 (io), 43 2A1 (io), 44 1A9 (io), 45 1A8 (io), 46 GND (power), 47 1A7 (io), 48 1A6 (io), 49 1A5 (io), 50 VCC (power), 51 1A4 (io), 52 1A3 (io), 53 GND (power), 54 1A2 (io), 55 1A1 (io), 56 1~{OE} (in)

## SN74LVTH182646APM
designator U?
3.3V ABT Scan Test Device with 18-Bit Transceiver and Register; Published: 8-Jun-2000; LatestRevisionDate: 13-Apr-2006; LatestRevisionNote: IPC-7351 Footprint Added.; DatasheetVersion: Jun-1997; PackageVersion: Dec-1996; PackageReference: PM064; Publisher: Altium Limited; PackageDescription: 64-Pin Thin Quad Flat Pack 0.5 mm Pitch; ComponentLink1Description: Manufacturer Link; ComponentLink1URL: http://www.ti.com/; ComponentLink2Description: Datasheet; ComponentLink2URL: http://www-s.ti.com/sc/ds/sn74lvth18646a.pdf
footprint PM064_N (Thin QFP, 64-Leads, Body 10x10mm, Pitch 0.5mm, IPC Medium Density)
footprint PM064_L (Thin QFP, 64-Leads, Body 10x10mm, Pitch 0.5mm, IPC High Density)
footprint PM064_M (Thin QFP, 64-Leads, Body 10x10mm, Pitch 0.5mm, IPC Low Density)
3D model SN74LVTH182646A-PM064 (64-Pin Thin Quad Flat Pack 0.5 mm Pitch)
pins: 1 1A3 (io), 2 1A4 (io), 3 1A5 (io), 4 GND (power), 5 1A6 (io), 6 1A7 (io), 7 1A8 (io), 8 1A9 (io), 9 VCC (power), 10 2A1 (io), 11 2A2 (io), 12 2A3 (io), 13 GND (power), 14 2A4 (io), 15 2A5 (io), 16 2A6 (io), 17 2A7 (io), 18 2A8 (io), 19 2A9 (io), 20 GND (power), 21 2~{OE} (in), 22 2SAB (in), 23 2CLKAB (in), 24 TDI (in), 25 VCC (power), 26 TCK (in), 27 2CLKBA (in), 28 2SBA (in), 29 GND (power), 30 2DIR (in), 31 2B9 (io), 32 2B8 (io), 33 2B7 (io), 34 2B6 (io), 35 2B5 (io), 36 GND (power), 37 2B4 (io), 38 2B3 (io), 39 2B2 (io), 40 2B1 (io), 41 VCC (power), 42 1B9 (io), 43 1B8 (io), 44 1B7 (io), 45 GND (power), 46 1B6 (io), 47 1B5 (io), 48 1B4 (io), 49 1B3 (io), 50 1B2 (io), 51 1B1 (io), 52 GND (power), 53 1DIR (in), 54 1SBA (in), 55 1CLKBA (in), 56 TMS (in), 57 VCC (power), 58 TDO (hiz), 59 1CLKAB (in), 60 1SAB (in), 61 GND (power), 62 1~{OE} (in), 63 1A1 (io), 64 1A2 (io)

## SN74LVTH182652APM
designator U?
3.3V ABT Scan Test Device with 18-Bit Transceiver and Register; Published: 8-Jun-2000; LatestRevisionDate: 13-Apr-2006; LatestRevisionNote: IPC-7351 Footprint Added.; DatasheetVersion: Jun-1997; PackageVersion: Dec-1996; PackageReference: PM064; Publisher: Altium Limited; PackageDescription: 64-Pin Thin Quad Flat Pack 0.5 mm Pitch; ComponentLink1Description: Manufacturer Link; ComponentLink1URL: http://www.ti.com/; ComponentLink2Description: Datasheet; ComponentLink2URL: http://www-s.ti.com/sc/ds/sn74lvth18652a.pdf
footprint PM064_N (Thin QFP, 64-Leads, Body 10x10mm, Pitch 0.5mm, IPC Medium Density)
footprint PM064_L (Thin QFP, 64-Leads, Body 10x10mm, Pitch 0.5mm, IPC High Density)
footprint PM064_M (Thin QFP, 64-Leads, Body 10x10mm, Pitch 0.5mm, IPC Low Density)
3D model SN74LVTH182652A-PM064 (64-Pin Thin Quad Flat Pack 0.5 mm Pitch)
pins: 1 1A3 (io), 2 1A4 (io), 3 1A5 (io), 4 GND (power), 5 1A6 (io), 6 1A7 (io), 7 1A8 (io), 8 1A9 (io), 9 VCC (power), 10 2A1 (io), 11 2A2 (io), 12 2A3 (io), 13 GND (power), 14 2A4 (io), 15 2A5 (io), 16 2A6 (io), 17 2A7 (io), 18 2A8 (io), 19 2A9 (io), 20 GND (power), 21 ~{2OEBA} (in), 22 2SAB (in), 23 2CLKAB (in), 24 TDI (in), 25 VCC (power), 26 TCK (in), 27 2CLKBA (in), 28 2SBA (in), 29 GND (power), 30 2OEAB (in), 31 2B9 (io), 32 2B8 (io), 33 2B7 (io), 34 2B6 (io), 35 2B5 (io), 36 GND (power), 37 2B4 (io), 38 2B3 (io), 39 2B2 (io), 40 2B1 (io), 41 VCC (power), 42 1B9 (io), 43 1B8 (io), 44 1B7 (io), 45 GND (power), 46 1B6 (io), 47 1B5 (io), 48 1B4 (io), 49 1B3 (io), 50 1B2 (io), 51 1B1 (io), 52 GND (power), 53 1OEAB (in), 54 1SBA (in), 55 1CLKBA (in), 56 TMS (in), 57 VCC (power), 58 TDO (hiz), 59 1CLKAB (in), 60 1SAB (in), 61 GND (power), 62 1~{OEBA} (in), 63 1A1 (io), 64 1A2 (io)

## SNJ54ABT8240FK
designator U?
Scan Test Device with Octal Buffer; Note: Pins 1, 8, 15 and 22 - No connection and not drawn; Published: 8-Jun-2000; LatestRevisionDate: 17-Jul-2002; LatestRevisionNote: Re-released for DXP Platform.; DatasheetVersion: Jul-1994; PackageVersion: 1998; PackageReference: FK028C; Publisher: Altium Limited; PackageDescription: Leadless Chip Carrier; 28 Terminals; Body 11.4 x 11.4 mm; ComponentLink1Description: Manufacturer Link; ComponentLink1URL: http://www.ti.com/
footprint FK028C (Leadless Chip Carrier; 28 Terminals; Body 11.4 x 11.4 mm)
signal-integrity model SNJ54ABT8240FK
pins: 2 2A1 (in), 3 1A4 (in), 4 1A3 (in), 5 1A2 (in), 6 1A1 (in), 7 2~{OE} (in), 9 1~{OE} (in), 10 1Y1 (hiz), 11 1Y2 (hiz), 12 1Y3 (hiz), 13 1Y4 (hiz), 14 GND (power), 16 2Y1 (hiz), 17 2Y2 (hiz), 18 2Y3 (hiz), 19 2Y4 (hiz), 20 TDO (hiz), 21 TMS (in), 23 TCK (in), 24 TDI (in), 25 2A4 (in), 26 2A3 (in), 27 2A2 (in), 28 VCC (power)

## SNJ54ABT8240JT
designator U?
Scan Test Device with Octal Buffer; Published: 8-Jun-2000; LatestRevisionDate: 06-Jun-2005; LatestRevisionNote: Stylized 3D Model Added.; DatasheetVersion: Jul-1994; PackageVersion: Jan-1997; PackageReference: JT024C; Publisher: Altium Limited; PackageDescription: DIP; 24 Leads; Row Spacing 7.62 mm; Pitch 2.54 mm; Code_JEDEC: MS-001-AF; ComponentLink1Description: Manufacturer Link; ComponentLink1URL: http://www.ti.com/
footprint JT024C (DIP; 24 Leads; Row Spacing 7.62 mm; Pitch 2.54 mm)
3D model JT024 (DIP; 24 Leads; Row Spacing 7.62 mm; Pitch 2.54 mm)
signal-integrity model SNJ54ABT8240JT
pins: 1 1~{OE} (in), 2 1Y1 (hiz), 3 1Y2 (hiz), 4 1Y3 (hiz), 5 1Y4 (hiz), 6 GND (power), 7 2Y1 (hiz), 8 2Y2 (hiz), 9 2Y3 (hiz), 10 2Y4 (hiz), 11 TDO (hiz), 12 TMS (in), 13 TCK (in), 14 TDI (in), 15 2A4 (in), 16 2A3 (in), 17 2A2 (in), 18 VCC (power), 19 2A1 (in), 20 1A4 (in), 21 1A3 (in), 22 1A2 (in), 23 1A1 (in), 24 2~{OE} (in)

## SNJ54ABT8244FK
designator U?
Scan Test Device with Octal Buffer; Note: Pins 1, 8, 15 and 22 - No connection and not drawn; Published: 8-Jun-2000; LatestRevisionDate: 17-Jul-2002; LatestRevisionNote: Re-released for DXP Platform.; DatasheetVersion: Jul-1994; PackageVersion: 1998; PackageReference: FK028C; Publisher: Altium Limited; PackageDescription: Leadless Chip Carrier; 28 Terminals; Body 11.4 x 11.4 mm; ComponentLink1Description: Manufacturer Link; ComponentLink1URL: http://www.ti.com/
footprint FK028C (Leadless Chip Carrier; 28 Terminals; Body 11.4 x 11.4 mm)
signal-integrity model SNJ54ABT8244FK
pins: 2 2A1 (in), 3 1A4 (in), 4 1A3 (in), 5 1A2 (in), 6 1A1 (in), 7 2~{OE} (in), 9 1~{OE} (in), 10 1Y1 (hiz), 11 1Y2 (hiz), 12 1Y3 (hiz), 13 1Y4 (hiz), 14 GND (power), 16 2Y1 (hiz), 17 2Y2 (hiz), 18 2Y3 (hiz), 19 2Y4 (hiz), 20 TDO (hiz), 21 TMS (in), 23 TCK (in), 24 TDI (in), 25 2A4 (in), 26 2A3 (in), 27 2A2 (in), 28 VCC (power)

## SNJ54ABT8244JT
designator U?
Scan Test Device with Octal Buffer; Published: 8-Jun-2000; LatestRevisionDate: 06-Jun-2005; LatestRevisionNote: Stylized 3D Model Added.; DatasheetVersion: Jul-1994; PackageVersion: Jan-1997; PackageReference: JT024C; Publisher: Altium Limited; PackageDescription: DIP; 24 Leads; Row Spacing 7.62 mm; Pitch 2.54 mm; Code_JEDEC: MS-001-AF; ComponentLink1Description: Manufacturer Link; ComponentLink1URL: http://www.ti.com/
footprint JT024C (DIP; 24 Leads; Row Spacing 7.62 mm; Pitch 2.54 mm)
3D model JT024 (DIP; 24 Leads; Row Spacing 7.62 mm; Pitch 2.54 mm)
signal-integrity model SNJ54ABT8244JT
pins: 1 1~{OE} (in), 2 1Y1 (hiz), 3 1Y2 (hiz), 4 1Y3 (hiz), 5 1Y4 (hiz), 6 GND (power), 7 2Y1 (hiz), 8 2Y2 (hiz), 9 2Y3 (hiz), 10 2Y4 (hiz), 11 TDO (hiz), 12 TMS (in), 13 TCK (in), 14 TDI (in), 15 2A4 (in), 16 2A3 (in), 17 2A2 (in), 18 VCC (power), 19 2A1 (in), 20 1A4 (in), 21 1A3 (in), 22 1A2 (in), 23 1A1 (in), 24 2~{OE} (in)

## SNJ54ABT8245FK
designator U?
Scan Test Device with Octal Bus Transceivers; Note: Pin(s) 1,8,15,22 "No Connection" and not drawn.; Published: 8-Jun-2000; LatestRevisionDate: 17-Jul-2002; LatestRevisionNote: Re-released for DXP Platform.; DatasheetVersion: Dec-1996; PackageVersion: 1998; PackageReference: FK028; Publisher: Altium Limited; PackageDescription: Leadless Chip Carrier; 28 Terminals; Body 11.4 x 11.4 mm; ComponentLink1Description: Manufacturer Link; ComponentLink1URL: http://www.ti.com/; ComponentLink2Description: Datasheet; ComponentLink2URL: http://www-s.ti.com/sc/ds/sn74abt8245.pdf
footprint FK028 (Leadless Chip Carrier; 28 Terminals; Body 11.4 x 11.4 mm)
signal-integrity model SNJ54ABT8245FK
pins: 2 A5 (io), 3 A4 (io), 4 A3 (io), 5 A2 (io), 6 A1 (io), 7 ~{OE} (in), 9 DIR (in), 10 B1 (io), 11 B2 (io), 12 B3 (io), 13 B4 (io), 14 GND (power), 16 B5 (io), 17 B6 (io), 18 B7 (io), 19 B8 (io), 20 TDO (hiz), 21 TMS (in), 23 TCK (in), 24 TDI (in), 25 A8 (io), 26 A7 (io), 27 A6 (io), 28 VCC (power)

## SNJ54ABT8245JT
designator U?
Scan Test Device with Octal Bus Transceivers; Published: 8-Jun-2000; LatestRevisionDate: 06-Jun-2005; LatestRevisionNote: Stylized 3D Model Added.; DatasheetVersion: Dec-1996; PackageVersion: Jan-1997; PackageReference: JT024; Publisher: Altium Limited; PackageDescription: DIP; 24 Leads; Row Spacing 7.62 mm; Pitch 2.54 mm; Code_JEDEC: MS-001-AF; ComponentLink1Description: Manufacturer Link; ComponentLink1URL: http://www.ti.com/; ComponentLink2Description: Datasheet; ComponentLink2URL: http://www-s.ti.com/sc/ds/sn74abt8245.pdf
footprint JT024 (DIP; 24 Leads; Row Spacing 7.62 mm; Pitch 2.54 mm)
3D model JT024 (DIP; 24 Leads; Row Spacing 7.62 mm; Pitch 2.54 mm)
signal-integrity model SNJ54ABT8245JT
pins: 1 DIR (in), 2 B1 (io), 3 B2 (io), 4 B3 (io), 5 B4 (io), 6 GND (power), 7 B5 (io), 8 B6 (io), 9 B7 (io), 10 B8 (io), 11 TDO (hiz), 12 TMS (in), 13 TCK (in), 14 TDI (in), 15 A8 (io), 16 A7 (io), 17 A6 (io), 18 VCC (power), 19 A5 (io), 20 A4 (io), 21 A3 (io), 22 A2 (io), 23 A1 (io), 24 ~{OE} (in)

## SNJ54ABT8373FK
designator U?
Scan Test Device with Octal D-Type Latch; Note: Pin(s) 1,8,15,22 "No Connection" and not drawn.; Published: 8-Jun-2000; LatestRevisionDate: 17-Jul-2002; LatestRevisionNote: Re-released for DXP Platform.; DatasheetVersion: Jul-1994; PackageVersion: 1998; PackageReference: FK028C; Publisher: Altium Limited; PackageDescription: Leadless Chip Carrier; 28 Terminals; Body 11.4 x 11.4 mm; ComponentLink1Description: Manufacturer Link; ComponentLink1URL: http://www.ti.com/
footprint FK028C (Leadless Chip Carrier; 28 Terminals; Body 11.4 x 11.4 mm)
signal-integrity model SNJ54ABT8373FK
pins: 2 D5 (in), 3 D4 (in), 4 D3 (in), 5 D2 (in), 6 D1 (in), 7 ~{OE} (in), 9 LE (in), 10 Q1 (hiz), 11 Q2 (hiz), 12 Q3 (hiz), 13 Q4 (hiz), 14 GND (power), 16 Q5 (hiz), 17 Q6 (hiz), 18 Q7 (hiz), 19 Q8 (hiz), 20 TDO (hiz), 21 TMS (in), 23 TCK (in), 24 TDI (in), 25 D8 (in), 26 D7 (in), 27 D6 (in), 28 VCC (power)

## SNJ54ABT8373JT
designator U?
Scan Test Device with Octal D-Type Latch; Published: 8-Jun-2000; LatestRevisionDate: 06-Jun-2005; LatestRevisionNote: Stylized 3D Model Added.; DatasheetVersion: Jul-1994; PackageVersion: Jan-1997; PackageReference: JT024C; Publisher: Altium Limited; PackageDescription: DIP; 24 Leads; Row Spacing 7.62 mm; Pitch 2.54 mm; Code_JEDEC: MS-001-AF; ComponentLink1Description: Manufacturer Link; ComponentLink1URL: http://www.ti.com/
footprint JT024C (DIP; 24 Leads; Row Spacing 7.62 mm; Pitch 2.54 mm)
3D model JT024 (DIP; 24 Leads; Row Spacing 7.62 mm; Pitch 2.54 mm)
signal-integrity model SNJ54ABT8373JT
pins: 1 LE (in), 2 Q1 (hiz), 3 Q2 (hiz), 4 Q3 (hiz), 5 Q4 (hiz), 6 GND (power), 7 Q5 (hiz), 8 Q6 (hiz), 9 Q7 (hiz), 10 Q8 (hiz), 11 TDO (hiz), 12 TMS (in), 13 TCK (in), 14 TDI (in), 15 D8 (in), 16 D7 (in), 17 D6 (in), 18 VCC (power), 19 D5 (in), 20 D4 (in), 21 D3 (in), 22 D2 (in), 23 D1 (in), 24 ~{OE} (in)

## SNJ54ABT8374FK
designator U?
Scan Test Device with Octal D-Type Edge-Triggered Flip-Flop; Note: Pin(s) 1,8,15,22 "No Connection" and not drawn.; Published: 8-Jun-2000; LatestRevisionDate: 17-Jul-2002; LatestRevisionNote: Re-released for DXP Platform.; DatasheetVersion: Jul-1994; PackageVersion: 1998; PackageReference: FK028C; Publisher: Altium Limited; PackageDescription: Leadless Chip Carrier; 28 Terminals; Body 11.4 x 11.4 mm; ComponentLink1Description: Manufacturer Link; ComponentLink1URL: http://www.ti.com/
footprint FK028C (Leadless Chip Carrier; 28 Terminals; Body 11.4 x 11.4 mm)
signal-integrity model SNJ54ABT8374FK
pins: 2 D5 (in), 3 D4 (in), 4 D3 (in), 5 D2 (in), 6 D1 (in), 7 ~{OE} (in), 9 CLK (in), 10 Q1 (hiz), 11 Q2 (hiz), 12 Q3 (hiz), 13 Q4 (hiz), 14 GND (power), 16 Q5 (hiz), 17 Q6 (hiz), 18 Q7 (hiz), 19 Q8 (hiz), 20 TDO (hiz), 21 TMS (in), 23 TCK (in), 24 TDI (in), 25 D8 (in), 26 D7 (in), 27 D6 (in), 28 VCC (power)

## SNJ54ABT8374JT
designator U?
Scan Test Device with Octal D-Type Edge-Triggered Flip-Flop; Published: 8-Jun-2000; LatestRevisionDate: 06-Jun-2005; LatestRevisionNote: Stylized 3D Model Added.; DatasheetVersion: Jul-1994; PackageVersion: Jan-1997; PackageReference: JT024C; Publisher: Altium Limited; PackageDescription: DIP; 24 Leads; Row Spacing 7.62 mm; Pitch 2.54 mm; Code_JEDEC: MS-001-AF; ComponentLink1Description: Manufacturer Link; ComponentLink1URL: http://www.ti.com/
footprint JT024C (DIP; 24 Leads; Row Spacing 7.62 mm; Pitch 2.54 mm)
3D model JT024 (DIP; 24 Leads; Row Spacing 7.62 mm; Pitch 2.54 mm)
signal-integrity model SNJ54ABT8374JT
pins: 1 CLK (in), 2 1Q (hiz), 3 2Q (hiz), 4 3Q (hiz), 5 4Q (hiz), 6 GND (power), 7 5Q (hiz), 8 6Q (hiz), 9 7Q (hiz), 10 8Q (hiz), 11 TDO (hiz), 12 TMS (in), 13 TCK (in), 14 TDI (in), 15 8D (in), 16 7D (in), 17 6D (in), 18 VCC (power), 19 5D (in), 20 4D (in), 21 3D (in), 22 2D (in), 23 1D (in), 24 ~{OE} (in)

## SNJ54ABT8543FK
designator U?
Scan Test Device with Octal Registered Bus Tranceivers; Published: 8-Jun-2000; LatestRevisionDate: 17-Jul-2002; LatestRevisionNote: Re-released for DXP Platform.; DatasheetVersion: Jul-1996; PackageVersion: 1998; PackageReference: FK028; Publisher: Altium Limited; PackageDescription: Leadless Chip Carrier; 28 Terminals; Body 11.4 x 11.4 mm; ComponentLink1Description: Manufacturer Link; ComponentLink1URL: http://www.ti.com/; ComponentLink2Description: Datasheet; ComponentLink2URL: http://www-s.ti.com/sc/ds/sn74abt8543.pdf
footprint FK028 (Leadless Chip Carrier; 28 Terminals; Body 11.4 x 11.4 mm)
signal-integrity model SNJ54ABT8543FK
pins: 1 B4 (io), 2 B3 (io), 3 B2 (io), 4 B1 (io), 5 ~{OEBA} (in), 6 ~{CEBA} (in), 7 ~{LEBA} (in), 8 ~{LEAB} (in), 9 ~{CEAB} (in), 10 ~{OEAB} (in), 11 A1 (io), 12 A2 (io), 13 A3 (io), 14 GND (power), 15 A4 (io), 16 A5 (io), 17 A6 (io), 18 A7 (io), 19 A8 (io), 20 TDO (hiz), 21 TMS (in), 22 TCK (in), 23 TDI (in), 24 B8 (io), 25 B7 (io), 26 B6 (io), 27 B5 (io), 28 VCC (power)

## SNJ54ABT8543JT
designator U?
Scan Test Device with Octal Registered Bus Tranceivers; Published: 8-Jun-2000; LatestRevisionDate: 06-Jun-2005; LatestRevisionNote: Stylized 3D Model Added.; DatasheetVersion: Jul-1996; PackageVersion: Jan-1997; PackageReference: JT028; Publisher: Altium Limited; PackageDescription: DIP; 28 Leads; Row Spacing 7.62 mm; Pitch 2.54 mm; ComponentLink1Description: Manufacturer Link; ComponentLink1URL: http://www.ti.com/; ComponentLink2Description: Datasheet; ComponentLink2URL: http://www-s.ti.com/sc/ds/sn74abt8543.pdf
footprint JT028 (DIP; 28 Leads; Row Spacing 7.62 mm; Pitch 2.54 mm)
3D model JT028 (DIP; 28 Leads; Row Spacing 7.62 mm; Pitch 2.54 mm)
signal-integrity model SNJ54ABT8543JT
pins: 1 ~{LEAB} (in), 2 ~{CEAB} (in), 3 ~{OEAB} (in), 4 A1 (io), 5 A2 (io), 6 A3 (io), 7 GND (power), 8 A4 (io), 9 A5 (io), 10 A6 (io), 11 A7 (io), 12 A8 (io), 13 TDO (hiz), 14 TMS (in), 15 TCK (in), 16 TDI (in), 17 B8 (io), 18 B7 (io), 19 B6 (io), 20 B5 (io), 21 VCC (power), 22 B4 (io), 23 B3 (io), 24 B2 (io), 25 B1 (io), 26 ~{OEBA} (in), 27 ~{CEBA} (in), 28 ~{LEBA} (in)

## SNJ54ABT8646FK
designator U?
Scan Test Device with Octal Bus Transceivers and Registers; Published: 8-Jun-2000; LatestRevisionDate: 17-Jul-2002; LatestRevisionNote: Re-released for DXP Platform.; DatasheetVersion: Jul-1996; PackageVersion: 1998; PackageReference: FK028; Publisher: Altium Limited; PackageDescription: Leadless Chip Carrier; 28 Terminals; Body 11.4 x 11.4 mm; ComponentLink1Description: Manufacturer Link; ComponentLink1URL: http://www.ti.com/; ComponentLink2Description: Datasheet; ComponentLink2URL: http://www-s.ti.com/sc/ds/sn74abt8646.pdf
footprint FK028 (Leadless Chip Carrier; 28 Terminals; Body 11.4 x 11.4 mm)
signal-integrity model SNJ54ABT8646FK
pins: 1 B4 (io), 2 B3 (io), 3 B2 (io), 4 B1 (io), 5 ~{OE} (in), 6 SBA (in), 7 CLKBA (in), 8 CLKAB (in), 9 SAB (in), 10 DIR (in), 11 A1 (io), 12 A2 (io), 13 A3 (io), 14 GND (power), 15 A4 (io), 16 A5 (io), 17 A6 (io), 18 A7 (io), 19 A8 (io), 20 TDO (hiz), 21 TMS (in), 22 TCK (in), 23 TDI (in), 24 B8 (io), 25 B7 (io), 26 B6 (io), 27 B5 (io), 28 VCC (power)

## SNJ54ABT8646JT
designator U?
Scan Test Device with Octal Bus Transceivers and Registers; Published: 8-Jun-2000; LatestRevisionDate: 06-Jun-2005; LatestRevisionNote: Stylized 3D Model Added.; DatasheetVersion: Jul-1996; PackageVersion: Jan-1997; PackageReference: JT028; Publisher: Altium Limited; PackageDescription: DIP; 28 Leads; Row Spacing 7.62 mm; Pitch 2.54 mm; ComponentLink1Description: Manufacturer Link; ComponentLink1URL: http://www.ti.com/; ComponentLink2Description: Datasheet; ComponentLink2URL: http://www-s.ti.com/sc/ds/sn74abt8646.pdf
footprint JT028 (DIP; 28 Leads; Row Spacing 7.62 mm; Pitch 2.54 mm)
3D model JT028 (DIP; 28 Leads; Row Spacing 7.62 mm; Pitch 2.54 mm)
signal-integrity model SNJ54ABT8646JT
pins: 1 CLKAB (in), 2 SAB (in), 3 DIR (in), 4 A1 (io), 5 A2 (io), 6 A3 (io), 7 GND (power), 8 A4 (io), 9 A5 (io), 10 A6 (io), 11 A7 (io), 12 A8 (io), 13 TDO (hiz), 14 TMS (in), 15 TCK (in), 16 TDI (in), 17 B8 (io), 18 B7 (io), 19 B6 (io), 20 B5 (io), 21 VCC (power), 22 B4 (io), 23 B3 (io), 24 B2 (io), 25 B1 (io), 26 ~{OE} (in), 27 SBA (in), 28 CLKBA (in)

## SNJ54ABT8652FK
designator U?
Scan Test Device with Octal Bus Transceivers and Registers; Published: 8-Jun-2000; LatestRevisionDate: 17-Jul-2002; LatestRevisionNote: Re-released for DXP Platform.; DatasheetVersion: Dec-1996; PackageVersion: 1998; PackageReference: FK028; Publisher: Altium Limited; PackageDescription: Leadless Chip Carrier; 28 Terminals; Body 11.4 x 11.4 mm; ComponentLink1Description: Manufacturer Link; ComponentLink1URL: http://www.ti.com/; ComponentLink2Description: Datasheet; ComponentLink2URL: http://www-s.ti.com/sc/ds/sn74abt8652.pdf
footprint FK028 (Leadless Chip Carrier; 28 Terminals; Body 11.4 x 11.4 mm)
signal-integrity model SNJ54ABT8652FK
pins: 1 B4 (io), 2 B3 (io), 3 B2 (io), 4 B1 (io), 5 ~{OEBA} (in), 6 SBA (in), 7 CLKBA (in), 8 CLKAB (in), 9 SAB (in), 10 OEAB (in), 11 A1 (io), 12 A2 (io), 13 A3 (io), 14 GND (power), 15 A4 (io), 16 A5 (io), 17 A6 (io), 18 A7 (io), 19 A8 (io), 20 TDO (hiz), 21 TMS (in), 22 TCK (in), 23 TDI (in), 24 B8 (io), 25 B7 (io), 26 B6 (io), 27 B5 (io), 28 VCC (power)

## SNJ54ABT8652JT
designator U?
Scan Test Device with Octal Bus Transceivers and Registers; Published: 8-Jun-2000; LatestRevisionDate: 06-Jun-2005; LatestRevisionNote: Stylized 3D Model Added.; DatasheetVersion: Dec-1996; PackageVersion: Jan-1997; PackageReference: JT028; Publisher: Altium Limited; PackageDescription: DIP; 28 Leads; Row Spacing 7.62 mm; Pitch 2.54 mm; ComponentLink1Description: Manufacturer Link; ComponentLink1URL: http://www.ti.com/; ComponentLink2Description: Datasheet; ComponentLink2URL: http://www-s.ti.com/sc/ds/sn74abt8652.pdf
footprint JT028 (DIP; 28 Leads; Row Spacing 7.62 mm; Pitch 2.54 mm)
3D model JT028 (DIP; 28 Leads; Row Spacing 7.62 mm; Pitch 2.54 mm)
signal-integrity model SNJ54ABT8652JT
pins: 1 CLKAB (in), 2 SAB (in), 3 OEAB (in), 4 A1 (io), 5 A2 (io), 6 A3 (io), 7 GND (power), 8 A4 (io), 9 A5 (io), 10 A6 (io), 11 A7 (io), 12 A8 (io), 13 TDO (hiz), 14 TMS (in), 15 TCK (in), 16 TDI (in), 17 B8 (io), 18 B7 (io), 19 B6 (io), 20 B5 (io), 21 VCC (power), 22 B4 (io), 23 B3 (io), 24 B2 (io), 25 B1 (io), 26 ~{OEBA} (in), 27 SBA (in), 28 CLKBA (in)

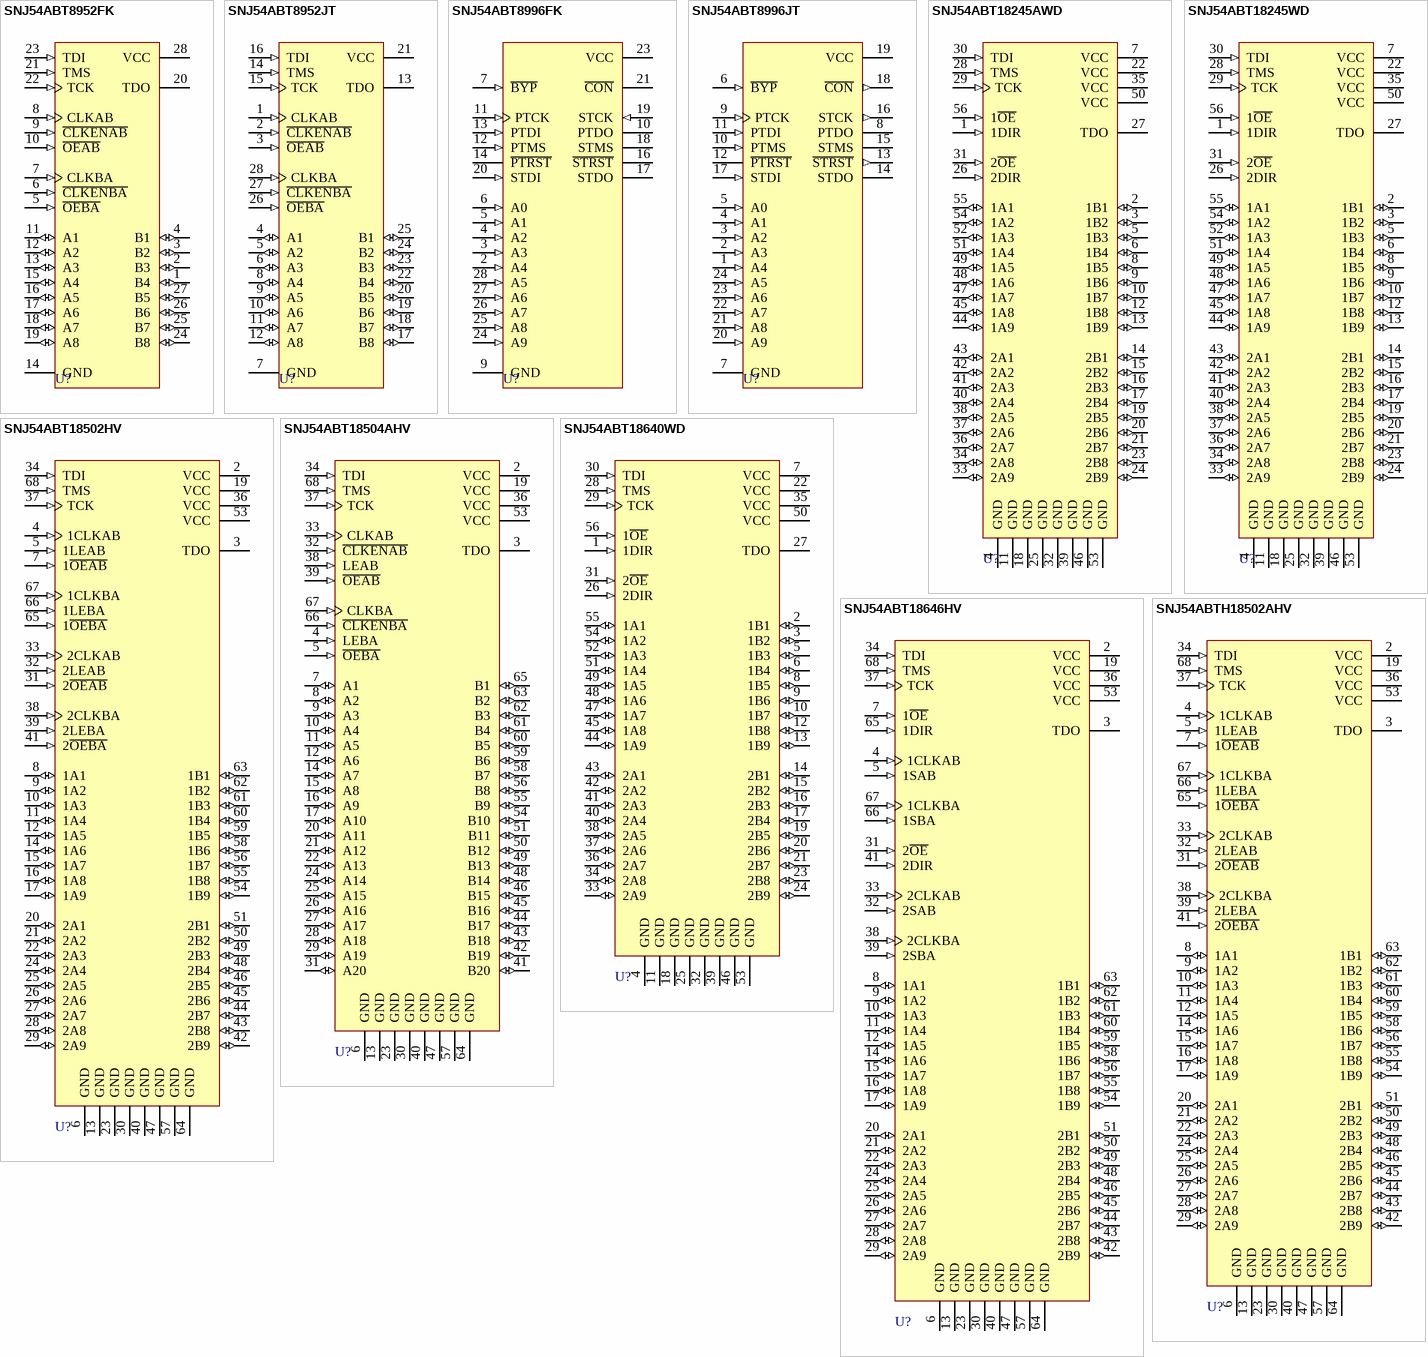
[diagram p7: symbols SNJ54ABT8952FK to SNJ54ABTH18502AHV]

## SNJ54ABT8952FK
designator U?
Scan Test Device with Octal Registered Bus Transceiver; Published: 8-Jun-2000; LatestRevisionDate: 17-Jul-2002; LatestRevisionNote: Re-released for DXP Platform.; DatasheetVersion: Jul-1996; PackageVersion: 1998; PackageReference: FK028C; Publisher: Altium Limited; PackageDescription: Leadless Chip Carrier; 28 Terminals; Body 11.4 x 11.4 mm; ComponentLink1Description: Manufacturer Link; ComponentLink1URL: http://www.ti.com/
footprint FK028C (Leadless Chip Carrier; 28 Terminals; Body 11.4 x 11.4 mm)
signal-integrity model SNJ54ABT8952FK
pins: 1 B4 (io), 2 B3 (io), 3 B2 (io), 4 B1 (io), 5 ~{OEBA} (in), 6 ~{CLKENBA} (in), 7 CLKBA (in), 8 CLKAB (in), 9 ~{CLKENAB} (in), 10 ~{OEAB} (in), 11 A1 (io), 12 A2 (io), 13 A3 (io), 14 GND (power), 15 A4 (io), 16 A5 (io), 17 A6 (io), 18 A7 (io), 19 A8 (io), 20 TDO (hiz), 21 TMS (in), 22 TCK (in), 23 TDI (in), 24 B8 (io), 25 B7 (io), 26 B6 (io), 27 B5 (io), 28 VCC (power)